# Altium footprint library Chips.PcbLib: 57 footprints (part 1 of 4)
Each footprint in its own frame and in the unit in brackets; x right, y up, seen from the top. Pads: shape width x height; smd on the part's side, far side on the other; paste and mask are expansions set on the pad; w line width, h text height; cw(c..) or ccw(c..) is an arc to the next point about the centre after c.
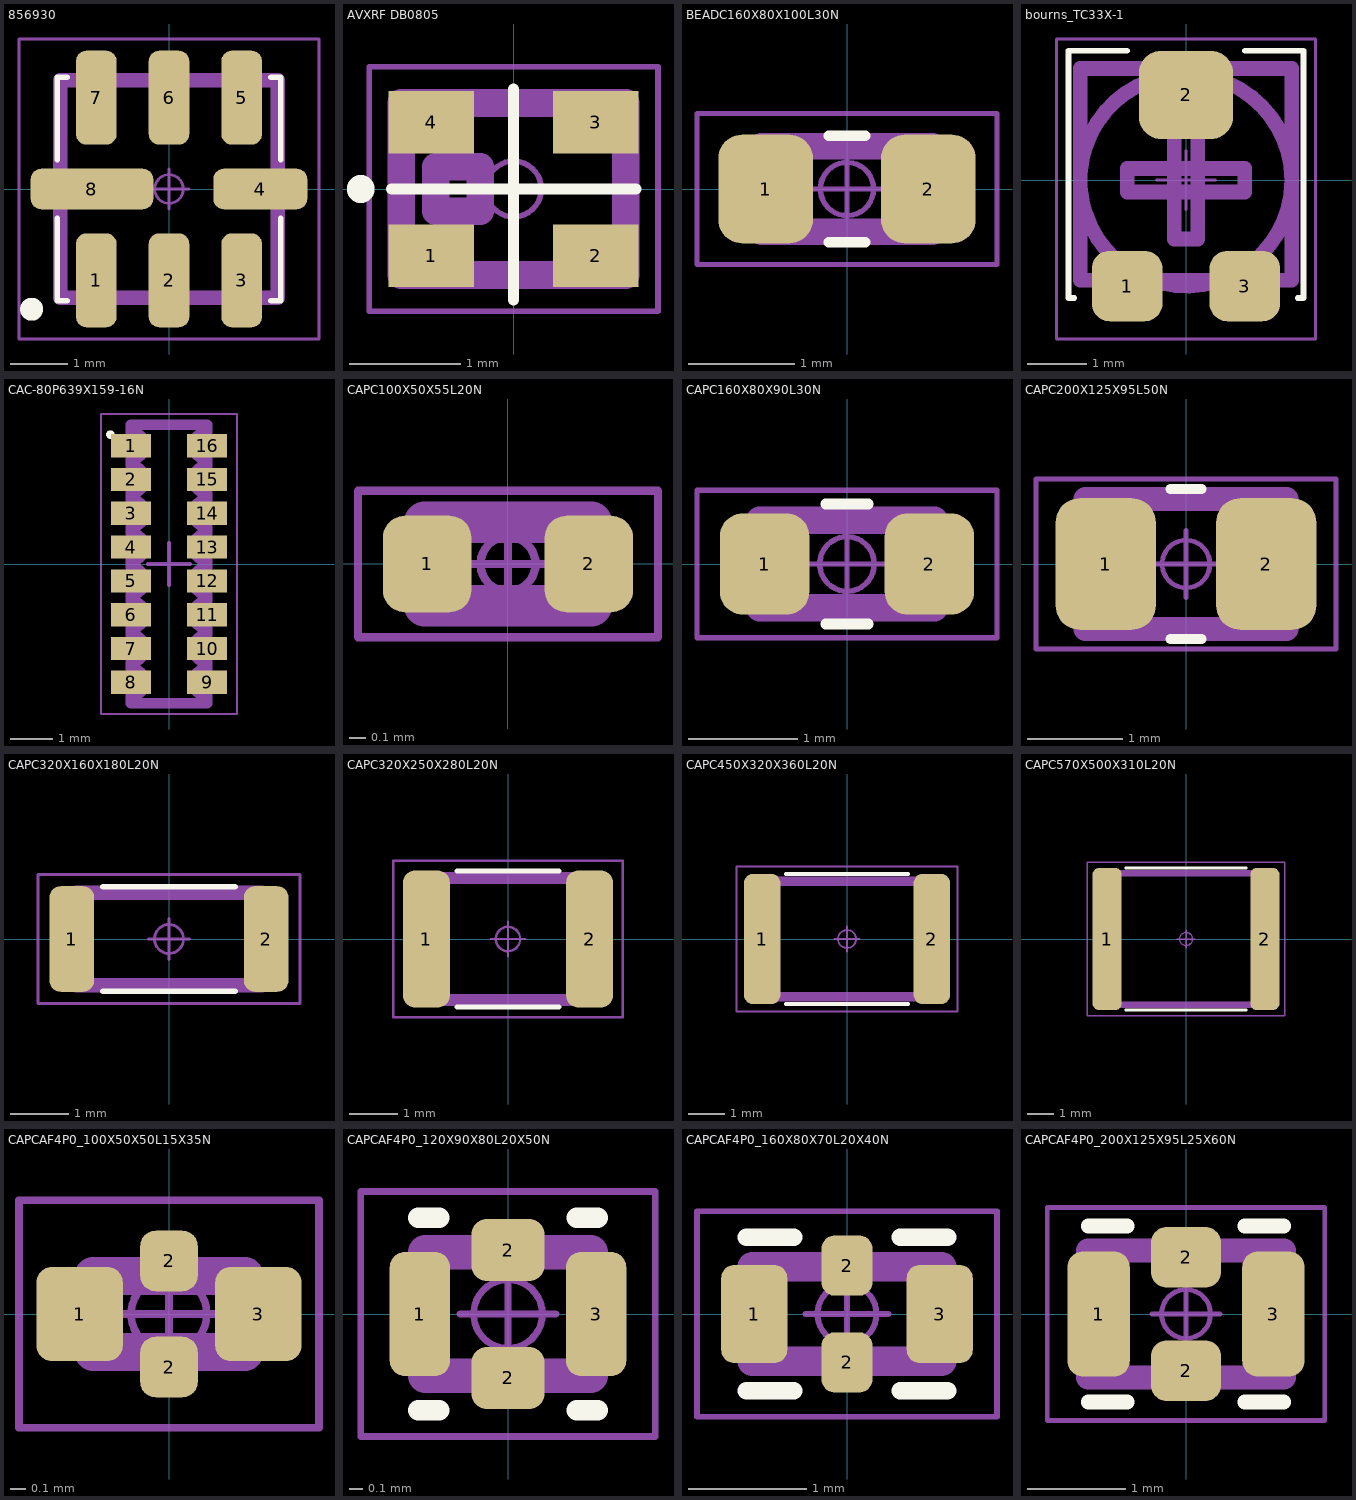
[diagram p0: the footprints below, top view; thin cyan lines are the x and y axes]

## 856930 [mm] "Leadless Chip Carrier (LCC), 1.27 mm pitch; square, 3 pin X 1 pin, 3.80 mm L X 3.80 mm W X 1.45 mm H body"
height 1.45
pads (8):
  rrect51% 0.71x1.64 smd: 1(-1.27,-1.595) 2(0,-1.595) 3(1.27,-1.595) 5(1.27,1.595) 6(0,1.595) 7(-1.27,1.595)
  rrect51% 1.64x0.71 smd: 4(1.595,0)
  rrect51% 2.14x0.71 smd: 8(-1.345,0)
Top Overlay:
  circle w0.2: c-2.4,-2.1 r0.1
  lines w0.1: -1.95,-0.51 -1.95,-1.95 -1.78,-1.95 ; -1.95,0.51 -1.95,1.95 -1.78,1.95 ; 1.78,-1.95 1.95,-1.95 1.95,-0.51 ; 1.78,1.95 1.95,1.95 1.95,0.51
Top Assembly:
  lines w0.25: -1.9,-1.9 -1.9,1.9 1.9,1.9 1.9,-1.9 -1.9,-1.9
  text ".Designator" at -1.8,-0.5 h1.5
Top Courtyard:
  circle w0.05: c0,0 r0.25
  lines w0.05: -0.35,0 0.35,0 ; 0,-0.35 0,0.35 ; -2.62,-2.62 -2.62,2.62 2.62,2.62 2.62,-2.62 -2.62,-2.62
3D body "856930.STEP": height 1.45, standoff 0, extent -1.95,-1.95 1.95,1.95

## AVXRF DB0805 [mm] "AVX RF case DB0805"
height 1.13
pads (4):
  rect 0.77x0.56 smd: 1(-0.74,-0.6) 2(0.74,-0.6) 3(0.74,0.6) 4(-0.74,0.6)
Top Overlay:
  circle w0.2: c-1.375,0 r0.025
  lines w0.1: -1.1,0 1.1,0 ; 0,-1 0,0.9
Top Assembly:
  lines w0.25: -1.01,-0.775 -1.01,0.775 1.01,0.775 1.01,-0.775 -1.01,-0.775 ; -0.7,-0.2 -0.7,0.2 -0.3,0.2 -0.3,-0.2 -0.7,-0.2
  text ".Designator" at -2,1.1 h1.5
Top Courtyard:
  circle w0.05: c0,0 r0.25
  lines w0.05: -0.35,0 0.35,0 ; 0,-0.35 0,0.35 ; -1.3,-1.1 -1.3,1.1 1.3,1.1 1.3,-1.1 -1.3,-1.1
3D body "DB0805.STEP": height 1.13, standoff 0, extent -1.015,-0.775 1.015,0.775

## BEADC160X80X100L30N [mm] "Ferrite Bead, Chip; 1.60 mm L X 0.80 mm W X 1.00 mm H body"
height 1
pads (2):
  rrect49% 0.89x1.02 smd: 1(-0.765,0) 2(0.765,0)
Top Overlay:
  lines w0.1: -0.17,-0.5 0.17,-0.5 ; -0.17,0.5 0.17,0.5
Top Assembly:
  lines w0.25: -0.8,-0.4 0.8,-0.4 0.8,0.4 -0.8,0.4 -0.8,-0.4
  text ".Designator" at -2.5,0.8 h1.5
Top Courtyard:
  circle w0.05: c0,0 r0.25
  lines w0.05: -0.35,0 0.35,0 ; 0,-0.35 0,0.35 ; -1.41,-0.71 1.41,-0.71 1.41,0.71 -1.41,0.71 -1.41,-0.71
3D body "BEADC160X80X100L30.STEP": height 1, standoff 0, extent -0.8,-0.4 0.8,0.4

## bourns_TC33X-1 [mm] "Trimmer Potenciometer, Bourns,  3.6 mm X 3.8 mm X 1.2 mm"
height 1.2
pads (3):
  rrect50% 1.2x1.2 smd: 1(-1,-1.8) 3(1,-1.8)
  rrect50% 1.6x1.5 smd: 2(0,1.45)
Top Overlay:
  lines w0.1: -1.9,-2 -2,-2 -2,2.2 -1,2.2 ; 1,2.2 2,2.2 2,-2 1.9,-2
Top Assembly:
  circle w0.25: c0,0 r1.8
  lines w0.25: -1.8,-1.7 -1.8,1.9 1.8,1.9 1.8,-1.7 -1.8,-1.7 ; -1,-0.2 -1,0.2 1,0.2 1,-0.2 -1,-0.2 ; -0.2,-1 -0.2,1 0.2,1 0.2,-1 -0.2,-1
  text ".Designator" at -3.5,2.6 h1.5
Top Courtyard:
  circle w0.05: c0,0 r0.25
  lines w0.05: -0.5,0 0.5,0 ; 0,-0.5 0,0.5 ; -2.2,-2.7 -2.2,2.4 2.2,2.4 2.2,-2.7 -2.2,-2.7
3D body "TC-33X-1.stp": height 1.13, standoff -0.03, extent -1.8,-1.863 1.8,2

## CAC-80P639X159-16N [mm] "Chip Array, Concave, 16-Leads, Pitch 0.80mm,  Body 6.40x1.60mm,  IPC Medium Density"
height 0.7
pads (16):
  rect 0.95x0.55 smd: 1(-0.9,2.8) 2(-0.9,2) 3(-0.9,1.2) 4(-0.9,0.4) 5(-0.9,-0.4) 6(-0.9,-1.2) 7(-0.9,-2) 8(-0.9,-2.8) 9(0.9,-2.8) 10(0.9,-2) 11(0.9,-1.2) 12(0.9,-0.4) 13(0.9,0.4) 14(0.9,1.2) 15(0.9,2) 16(0.9,2.8)
Top Overlay:
  circle w0.1: c-1.387,3.063 r0.05
Top Assembly:
  lines w0.25: -0.9,-3.3 -0.9,-3.125 ccw(c-0.9,-2.8) -0.9,-2.475 -0.9,-2.325 ccw(c-0.9,-2) -0.9,-1.675 -0.9,-1.525 ccw(c-0.9,-1.2) -0.9,-0.875 -0.9,-0.725 ccw(c-0.9,-0.4) -0.9,-0.075 -0.9,0.075 ccw(c-0.9,0.4) -0.9,0.725 -0.9,0.875 ccw(c-0.9,1.2) -0.9,1.525 -0.9,1.675 ccw(c-0.9,2) -0.9,2.325 -0.9,2.475 ccw(c-0.9,2.8) -0.9,3.125 -0.9,3.3 0.9,3.3 0.9,3.125 ccw(c0.9,2.8) 0.9,2.475 0.9,2.325 ccw(c0.9,2) 0.9,1.675 0.9,1.525 ccw(c0.9,1.2) 0.9,0.875 0.9,0.725 ccw(c0.9,0.4) 0.9,0.075 0.9,-0.075 ccw(c0.9,-0.4) 0.9,-0.725 0.9,-0.875 ccw(c0.9,-1.2) 0.9,-1.525 0.9,-1.675 ccw(c0.9,-2) 0.9,-2.325 0.9,-2.475 ccw(c0.9,-2.8) 0.9,-3.125 0.9,-3.3 -0.9,-3.3
  text ".Designator" at -1.5,-2.2 h1.5
Top Courtyard:
  lines w0.05: -1.61,-3.55 -1.61,3.55 1.61,3.55 1.61,-3.55 -1.61,-3.55
  lines w0.1: -0.5,0 0.5,0 ; 0,-0.5 0,0.5
3D body "CAC-80P639X159-16N.step": height 0.7, standoff 0, extent -0.95,-3.3 0.95,3.3

## CAPC100X50X55L20N [mm] "Capacitor, Chip; 1.00 mm L X 0.50 mm W X 0.55 mm H body"
height 0.55
pads (2):
  rrect49% 0.53x0.58 smd: 1(-0.485,0) 2(0.485,0)
Top Assembly:
  lines w0.25: -0.5,-0.25 0.5,-0.25 0.5,0.25 -0.5,0.25 -0.5,-0.25
  text ".Designator" at -1.6,0.6 h1.5
Top Courtyard:
  circle w0.05: c0,0 r0.165
  lines w0.05: -0.22,0 0.22,0 ; 0,-0.22 0,0.22 ; -0.9,-0.44 0.9,-0.44 0.9,0.44 -0.9,0.44 -0.9,-0.44
3D body "CAPC100X50X55L20.STEP": height 0.55, standoff 0, extent -0.5,-0.25 0.5,0.25

## CAPC160X80X90L30N [mm] "Capacitor, Chip; 1.60 mm L X 0.80 mm W X 0.90 mm H body"
height 0.9
pads (2):
  rrect51% 0.82x0.93 smd: 1(-0.755,0) 2(0.755,0)
Top Overlay:
  lines w0.1: -0.195,-0.55 0.195,-0.55 ; -0.195,0.55 0.195,0.55
Top Assembly:
  lines w0.25: -0.8,-0.4 0.8,-0.4 0.8,0.4 -0.8,0.4 -0.8,-0.4
  text ".Designator" at -2.8,0.9 h1.5
Top Courtyard:
  circle w0.05: c0,0 r0.25
  lines w0.05: -0.335,0 0.335,0 ; 0,-0.335 0,0.335 ; -1.375,-0.675 -1.375,0.675 1.375,0.675 1.375,-0.675 -1.375,-0.675
3D body "CAPC160X80X90L30.STEP": height 0.9, standoff 0, extent -0.8,-0.4 0.8,0.4

## CAPC200X125X95L50N [mm] "Capacitor, Chip; 2.00 mm L X 1.25 mm W X 0.95 mm H body"
height 0.95
pads (2):
  rrect48% 1.05x1.38 smd: 1(-0.84,0) 2(0.84,0)
Top Overlay:
  lines w0.1: -0.165,-0.785 0.165,-0.785 ; -0.165,0.785 0.165,0.785
Top Assembly:
  lines w0.25: -1.05,-0.68 1.05,-0.68 1.05,0.68 -1.05,0.68 -1.05,-0.68
  text ".Designator" at -2.8,1.2 h1.5
Top Courtyard:
  circle w0.05: c0,0 r0.25
  lines w0.05: -0.35,0 0.35,0 ; 0,-0.35 0,0.35 ; -1.57,-0.89 1.57,-0.89 1.57,0.89 -1.57,0.89 -1.57,-0.89
3D body "CAPC200X125X95L50.STEP": height 0.95, standoff 0, extent -1,-0.625 1,0.625

## CAPC320X160X180L20N [mm] "Capacitor, Chip; 3.20 mm L X 1.60 mm W X 1.80 mm H body"
height 1.8
pads (2):
  rrect49% 0.77x1.82 smd: 1(-1.675,0) 2(1.675,0)
Top Overlay:
  lines w0.1: -1.14,-0.9 1.14,-0.9 ; -1.14,0.9 1.14,0.9
Top Assembly:
  lines w0.25: -1.6,-0.8 -1.6,0.8 1.6,0.8 1.6,-0.8 -1.6,-0.8
  text ".Designator" at -1.7,-0.4 h1.5
Top Courtyard:
  circle w0.05: c0,0 r0.25
  lines w0.05: -0.35,0 0.35,0 ; 0,-0.35 0,0.35 ; -2.26,-1.11 -2.26,1.11 2.26,1.11 2.26,-1.11 -2.26,-1.11
3D body "CAPC320X160X180L20.STEP": height 1.8, standoff 0, extent -1.6,-0.8 1.6,0.8

## CAPC320X250X280L20N [mm] "Capacitor, Chip; 3.20 mm L X 2.50 mm W X 2.80 mm H body"
height 2.8
pads (2):
  rrect50% 0.96x2.81 smd: 1(-1.675,0) 2(1.675,0)
Top Overlay:
  lines w0.1: -1.045,-1.4 1.045,-1.4 ; -1.045,1.4 1.045,1.4
Top Assembly:
  lines w0.25: -1.6,-1.25 1.6,-1.25 1.6,1.25 -1.6,1.25 -1.6,-1.25
  text ".Designator" at -1.4,-0.4 h1.5
Top Courtyard:
  circle w0.05: c0,0 r0.25
  lines w0.05: -0.35,0 0.35,0 ; 0,-0.35 0,0.35 ; -2.36,-1.61 2.36,-1.61 2.36,1.61 -2.36,1.61 -2.36,-1.61
3D body "CAPC320X250X280L20.STEP": height 2.8, standoff 0, extent -1.6,-1.25 1.6,1.25

## CAPC450X320X360L20N [mm] "Capacitor, Chip; 4.50 mm L X 3.20 mm W X 3.60 mm H body"
height 3.6
pads (2):
  rrect50% 1.01x3.61 smd: 1(-2.35,0) 2(2.35,0)
Top Overlay:
  lines w0.1: -1.695,-1.8 1.695,-1.8 ; -1.695,1.8 1.695,1.8
Top Assembly:
  lines w0.25: -2.25,-1.6 2.25,-1.6 2.25,1.6 -2.25,1.6 -2.25,-1.6
  text ".Designator" at -2,-0.4 h1.5
Top Courtyard:
  circle w0.05: c0,0 r0.25
  lines w0.05: -0.35,0 0.35,0 ; 0,-0.35 0,0.35 ; -3.06,-2.01 3.06,-2.01 3.06,2.01 -3.06,2.01 -3.06,-2.01
3D body "CAPC450X320X360L20.STEP": height 3.6, standoff 0, extent -2.25,-1.6 2.25,1.6

## CAPC570X500X310L20N [mm] "Capacitor, Chip; 5.70 mm L X 5.00 mm W X 3.10 mm H body"
height 3.1
pads (2):
  rrect45% 1.11x5.41 smd: 1(-3,0) 2(3,0)
Top Overlay:
  lines w0.1: -2.295,-2.7 2.295,-2.7 ; -2.295,2.7 2.295,2.7
Top Assembly:
  lines w0.25: -2.85,-2.5 -2.85,2.5 2.85,2.5 2.85,-2.5 -2.85,-2.5
  text ".Designator" at -2.5,-0.4 h1.5
Top Courtyard:
  circle w0.05: c0,0 r0.25
  lines w0.05: -0.35,0 0.35,0 ; 0,-0.35 0,0.35 ; -3.76,-2.91 -3.76,2.91 3.76,2.91 3.76,-2.91 -3.76,-2.91
3D body "CAPC570X500X310L20.STEP": height 3.1, standoff 0, extent -2.85,-2.5 2.85,2.5

## CAPCAF4P0_100X50X50L15X35N [mm] "Chip Array, 4 Side Flat, 0.00 mm pitch; rect., 1 pin X 1 pin, 1.00 mm L X 0.50 mm W X 0.50 mm H body"
height 0.5
pads (4):
  rrect35% 0.57x0.62 smd: 1(-0.59,0) 3(0.59,0)
  rrect53% 0.38x0.4 smd: 2(0,-0.35) 2(0,0.35)
Top Assembly:
  lines w0.25: -0.5,-0.25 0.5,-0.25 0.5,0.25 -0.5,0.25 -0.5,-0.25
  text ".Designator" at -1.5,1.1 h1.5
Top Courtyard:
  circle w0.05: c0,0 r0.25
  lines w0.05: -0.35,0 0.35,0 ; 0,-0.35 0,0.35 ; -0.99,-0.75 0.99,-0.75 0.99,0.75 -0.99,0.75 -0.99,-0.75
3D body "3-terminal_CAPC0402.STEP": height 0.4, standoff 0, extent -0.5,-0.25 0.5,0.25

## CAPCAF4P0_120X90X80L20X50N [mm] "Chip Array, 4 Side Flat, 0.00 mm pitch; rect., 1 pin X 1 pin, 1.20 mm L X 0.90 mm W X 0.80 mm H body"
height 0.8
pads (4):
  rrect50% 0.44x0.9 smd: 1(-0.64,0) 3(0.64,0)
  rrect49% 0.53x0.45 smd: 2(0,-0.465) 2(0,0.465)
Top Overlay:
  lines w0.15: -0.65,-0.7 -0.5,-0.7 ; -0.65,0.7 -0.5,0.7 ; 0.5,-0.7 0.65,-0.7 ; 0.5,0.7 0.65,0.7
Top Assembly:
  lines w0.25: -0.6,-0.45 0.6,-0.45 0.6,0.45 -0.6,0.45 -0.6,-0.45
  text ".Designator" at -1.1,0.8 h1.5
Top Courtyard:
  circle w0.05: c0,0 r0.25
  lines w0.05: -0.35,0 0.35,0 ; 0,-0.35 0,0.35 ; -1.07,-0.89 1.07,-0.89 1.07,0.89 -1.07,0.89 -1.07,-0.89
3D body "3-terminal_CAPC05035.STEP": height 0.75, standoff 0, extent -0.6,-0.45 0.6,0.45

## CAPCAF4P0_160X80X70L20X40N [mm] "Chip Array, 4 Side Flat, 0.00 mm pitch; rect., 1 pin X 1 pin, 1.60 mm L X 0.80 mm W X 0.70 mm H body"
height 0.7
pads (4):
  rrect39% 0.56x0.83 smd: 1(-0.785,0) 3(0.785,0)
  rrect51% 0.43x0.51 smd: 2(0,-0.41) 2(0,0.41)
Top Overlay:
  lines w0.15: -0.85,-0.65 -0.45,-0.65 ; -0.85,0.65 -0.45,0.65 ; 0.45,-0.65 0.85,-0.65 ; 0.45,0.65 0.85,0.65
Top Assembly:
  lines w0.25: -0.8,-0.4 -0.8,0.4 0.8,0.4 0.8,-0.4 -0.8,-0.4
  text ".Designator" at -1.9,1 h1.5
Top Courtyard:
  circle w0.05: c0,0 r0.25
  lines w0.05: -0.35,0 0.35,0 ; 0,-0.35 0,0.35 ; -1.27,-0.87 -1.27,0.87 1.27,0.87 1.27,-0.87 -1.27,-0.87
3D body "3-terminal_CAPC0603.STEP": height 0.6, standoff 0, extent -0.8,-0.4 0.8,0.4

## CAPCAF4P0_200X125X95L25X60N [mm] "Chip Array, 4 Side Flat, 0.00 mm pitch; rect., 1 pin X 1 pin, 2.00 mm L X 1.25 mm W X 0.95 mm H body"
height 0.95
pads (4):
  rrect50% 0.64x1.28 smd: 1(-0.895,0) 3(0.895,0)
  rrect52% 0.72x0.62 smd: 2(0,-0.58) 2(0,0.58)
Top Overlay:
  lines w0.15: -1,-0.9 -0.6,-0.9 ; -1,0.9 -0.6,0.9 ; 0.6,-0.9 1,-0.9 ; 0.6,0.9 1,0.9
Top Assembly:
  lines w0.25: -1,-0.65 -1,0.65 1,0.65 1,-0.65 -1,-0.65
  text ".Designator" at -1.9,1.1 h1.5
Top Courtyard:
  circle w0.05: c0,0 r0.25
  lines w0.05: -0.35,0 0.35,0 ; 0,-0.35 0,0.35 ; -1.42,-1.09 -1.42,1.09 1.42,1.09 1.42,-1.09 -1.42,-1.09
3D body "3-terminal_CAPC0805.STEP": height 0.85, standoff 0, extent -1,-0.625 1,0.625